# Altium schematic symbol library Wireless_Charger-X01.SchLib: 7 symbols
Pins are listed as number, name and electrical type; pins without a type are passive.

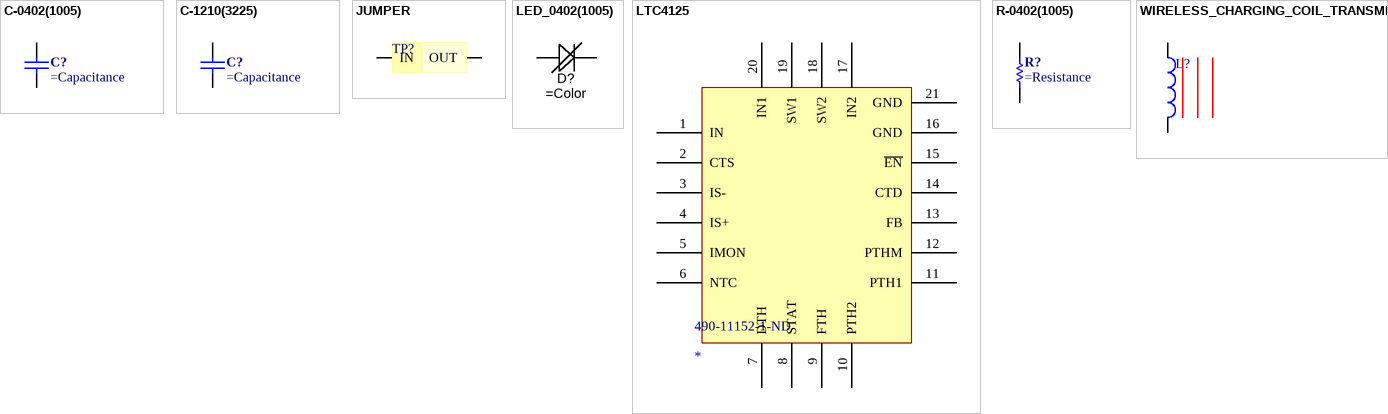
[diagram p0: symbols C-0402(1005) to WIRELESS_CHARGING_COIL_TRANSMITTER]

## C-0402(1005)
designator C?
___ OHM ___ mW 0402(1005) SMD; ComponentLink1URL: https://datasheet.ciiva.com/169/product-169683.pdf; ComponentLink1Description: https://datasheet.ciiva.com/169/product-169683.pdf
footprint C0402
pins: 1, 2

## C-1210(3225)
designator C?
___ OHM ___ mW 1210(3225) SMD; ComponentLink1URL: https://datasheet.ciiva.com/169/product-169683.pdf; ComponentLink1Description: https://datasheet.ciiva.com/169/product-169683.pdf
pins: 1, 2

## JUMPER
designator TP?  (value not drawn)
SHUNT LP W/HANDLE 2 POS 30AU; Manufacturer: TE Connectivity; Manufacturer Part Number: 8815452; Number of Contacts: 2; Contact Current Rating: 3A; Contact Resistance: 15mR; Gender: Female; Pitch: 2.54mm; Approvals: UL,CSA; Supplier 1: Digi-Key; Supplier Part Number 1: A26242-ND; RoHS: Yes; Category: Headers and Wire Housings; Stock 1: 2099; Pricing 1: 1=0.280000, 10=0.262000, 25=0.223600, 50=0.195600, 100=0.181700, 250=0.160760, 500=0.153760, 1000=0.125800, 2500=0.115320 (USD); Contact Plating: Gold; Housing Color: Black; Housing Material: Thermoplastic; Contact Material: Bronze; Color: Black; Min Operating Temperature: -65°C; Max Operating Temperature: 105°C; Number of Rows: 1; Package Quantity: 14000; Packaging: Bag; Orientation: Straight; Number of Positions: 2; Contact Gender: Female; Current Rating: 3A; Termination: Solder; Length: 5.08mm; Height: 10.9mm; Depth: 10.9mm; Width: 2.5mm; Radiation Hardening: No; Flammability Rating: UL94 V-0; REACH SVHC: No SVHC; ComponentLink1URL: https://datasheet.ciiva.com/1455/92946-1455888.pdf?src-supplier=Newark; ComponentLink1Description: https://datasheet.ciiva.com/1455/92946-1455888.pdf?src-supplier=Newark; ComponentLink2URL: https://datasheet.ciiva.com/19459/841467-19459897.pdf?src-supplier=Jameco; ComponentLink2Description: https://datasheet.ciiva.com/19459/841467-19459897.pdf?src-supplier=Jameco; ComponentLink3URL: https://datasheet.ciiva.com/15174/getdatasheetpartid-155768-15174939.pdf?src-supplier=Verical; ComponentLink3Description: https://datasheet.ciiva.com/15174/getdatasheetpartid-155768-15174939.pdf?src-supplier=Verical; ComponentLink4URL: https://datasheet.ciiva.com/11754/0900766b80da19e8-11754990.pdf?src-supplier=RSComponents; ComponentLink4Description: https://datasheet.ciiva.com/11754/0900766b80da19e8-11754990.pdf?src-supplier=RSComponents; ComponentLink5URL: https://datasheet.ciiva.com/30154/eng-cs-1307819-section-6-7and8-0808-30154293.pdf?src-supplier=Onlinecomponents.com; ComponentLink5Description: https://datasheet.ciiva.com/30154/eng-cs-1307819-section-6-7and8-0808-30154293.pdf?src-supplier=Onlinecomponents.com; ComponentLink6URL: https://datasheet.ciiva.com/767/eng-cd-881545-k3-767850.pdf?src-supplier=Digi-Key; ComponentLink6Description: https://datasheet.ciiva.com/767/eng-cd-881545-k3-767850.pdf?src-supplier=Digi-Key; ComponentLink7URL: https://datasheet.ciiva.com/3120/eng-cs-1307819-section-6-7and8-0808-3120202.pdf?src-supplier=Avnet; ComponentLink7Description: https://datasheet.ciiva.com/3120/eng-cs-1307819-section-6-7and8-0808-3120202.pdf?src-supplier=Avnet
footprint JUMPER
pins: 1 IN, 2 OUT

## LED_0402(1005)
designator D?
LED, 0402(1005) SMD
footprint LED_0402 (0402 w/ LED mark)
pins: A, K

## LTC4125
designator 490-11152-1-ND
Power Supply Support Circuit, Adjustable, 1 Channel, CMOS, PQCC20; Manufacturer: Analog Devices / Linear Technology; Manufacturer Part Number: LTC4125EUFD#PBF; Package Body Material: Plastic; Adjustable Threshold: Yes; Number of Channels: 1; Supply Voltage-Max (Vsup): 5.5V; Supply Voltage-Min (Vsup): 3V; Supply Voltage-Nom (Vsup): 5V; Supplier 1: Digi-Key; Supplier Part Number 1: LTC4125EUFD#PBF-ND; RoHS: Yes; Category: Power Management ICs; Stock 1: 155; Pricing 1: 1=9.12000, 10=8.36000, 25=7.60000, 100=6.84000, 250=6.27000, 500=5.70000 (USD); Package Code: HVQCCN; Number of Pins: 20; Package Shape: Rectangular; Terminal Finish: Tin; Min Operating Temperature: -40°C; Max Operating Temperature: 125°C; JESD-609 Code: e3; Analog IC - Other Type: POWER SUPPLY SUPPORT CIRCUIT; Number of Functions: 1; Package Style: CHIP CARRIER, HEAT SINK/SLUG, VERY THIN PROFILEMeter; Surface Mount: Yes; Technology: CMOS; Terminal Form: No Lead; Terminal Position: QUAD; Length: 5mm; Width: 4mm; Height - Seated (Max): 0.8mm; Terminal Pitch: 0.5mm; Temperature Grade: AUTOMOTIVE; REACH SVHC: Yes; RoHS Compliant: Yes; ComponentLink1URL: https://datasheet.ciiva.com:443/pdfs/VipMasterIC/IC/LITC/LITC-S-A0001273422/LITC-S-A0001273422-1.pdf?src-supplier=IHS+Markit; ComponentLink1Description: https://datasheet.ciiva.com:443/pdfs/VipMasterIC/IC/LITC/LITC-S-A0001273422/LITC-S-A0001273422-1.pdf?src-supplier=IHS+Markit; ComponentLink2URL: http://www.farnell.com/datasheets/2015288.pdf?src-supplier=Farnell; ComponentLink2Description: http://www.farnell.com/datasheets/2015288.pdf?src-supplier=Farnell; ComponentLink3URL: http://www.linear.com/docs/47419?src-supplier=Digi-Key; ComponentLink3Description: http://www.linear.com/docs/47419?src-supplier=Digi-Key; ComponentLink4URL: http://www.farnell.com/datasheets/2015288.pdf?src-supplier=Element14; ComponentLink4Description: http://www.farnell.com/datasheets/2015288.pdf?src-supplier=Element14
footprint 20-QFN (QFN, 20-Leads, Body 5.1x4.1mm, Pitch 0.5mm, Thermal Pad 2.65x3.65mm, IPC Low Density)
pins: 1 IN, 2 CTS, 3 IS-, 4 IS+, 5 IMON, 6 NTC, 7 DTH, 8 STAT, 9 FTH, 10 PTH2, 11 PTH1, 12 PTHM, 13 FB, 14 CTD, 15 ~{EN}, 16 GND, 17 IN2, 18 SW2, 19 SW1, 20 IN1, 21 GND

## R-0402(1005)
designator R?
___ OHM ___ mW 0402(1005) SMD
footprint R0402
pins: 1, 2

## WIRELESS_CHARGING_COIL_TRANSMITTER
designator L?, comment WIRELESS CHARGING COIL, TRANSMITTER  (value not drawn)
General Purpose Inductor, 6.8uH, 10%, 1 Element; Manufacturer: Wurth Electronics; Manufacturer Part Number: 760308101104; Description: General Purpose Inductor, 6.5uH, 10%, 1 Element; DC Resistance (DCR): 125mR; Inductance-Nom (L): 6.5uH; Inductor Application: RF INDUCTOR; Number of Functions: 1; Quality Factor-Min (at L-nom): 42; Rated Current-Max: 2.5A; Self Resonant Frequency: 20MHz; Shape/Size Description: DISK PACKAGE; Shielding: Unshielded; Surface Mount: No; Test Frequency: 125kHz; Supplier 1: Digi-Key; Supplier Part Number 1: 732-9677-ND; RoHS: No; Category: Inductors; Stock 1: 1193; Pricing 1: 1=12.32000, 10=11.40400, 66=10.36697, 122=9.42500, 244=8.56803 (USD); Number of Pins: 2; Min Operating Temperature: -20°C; Max Operating Temperature: 105°C; Tolerance: 10%; Inductor Type: GENERAL PURPOSE INDUCTOR; Terminal Placement: Axial; Termination: FLEXIBLE LEAD; REACH SVHC: Yes; RoHS Compliant: No; ComponentLink1URL: https://datasheet.ciiva.com:443/pdfs/VipMasterIC/IC/MIDC/MIDC-S-A0007802517/MIDC-S-A0007768474-1.pdf?src-supplier=IHS+Markit; ComponentLink1Description: https://datasheet.ciiva.com:443/pdfs/VipMasterIC/IC/MIDC/MIDC-S-A0007802517/MIDC-S-A0007768474-1.pdf?src-supplier=IHS+Markit; ComponentLink2URL: http://www.farnell.com/datasheets/2706710.pdf?src-supplier=Farnell; ComponentLink2Description: http://www.farnell.com/datasheets/2706710.pdf?src-supplier=Farnell; ComponentLink3URL: https://katalog.we-online.de/pbs/datasheet/760308101104.pdf?src-supplier=Digi-Key; ComponentLink3Description: https://katalog.we-online.de/pbs/datasheet/760308101104.pdf?src-supplier=Digi-Key; ComponentLink4URL: http://www.farnell.com/datasheets/2706710.pdf?src-supplier=Newark; ComponentLink4Description: http://www.farnell.com/datasheets/2706710.pdf?src-supplier=Newark
footprint 760308101104 (TX Transmitter Coil)
pins: 1, 2